# EAGLE library part OPENMV3 (library openmv)
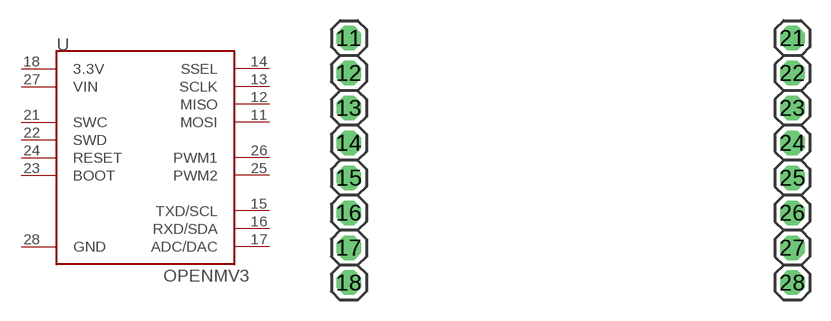
[diagram p2: symbol with the pads of OPENMV3; footprint OPENMV3]

Designator prefix -

## OPENMV3  [OPENMV3]
11  MOSI
12  MISO
13  SCLK
14  SSEL
15  TXD/SCL
16  RXD/SDA
17  ADC/DAC
18  3.3V  sup
21  SWC
22  SWD
23  BOOT
24  RESET
25  PWM2
26  PWM1
27  VIN  pwr
28  GND  pwr

## Footprint OPENMV3 (pad centres in mm)
drill 1.016 pad 1.778 octagon: 11 1.651,19.304; 12 1.651,16.764; 13 1.651,14.224; 14 1.651,11.684; 15 1.651,9.144; 16 1.651,6.604; 17 1.651,4.064; 18 1.651,1.524; 21 33.909,19.304; 22 33.909,16.764; 23 33.909,14.224; 24 33.909,11.684; 25 33.909,9.144; 26 33.909,6.604; 27 33.909,4.064; 28 33.909,1.524